# Altium footprint library SX1301DVK_e286v01a.PcbLib: 110 footprints (part 5 of 7)
Each footprint in its own frame and in the unit in brackets; x right, y up, seen from the top. Pads: shape width x height; smd on the part's side, far side on the other; paste and mask are expansions set on the pad; w line width, h text height; cw(c..) or ccw(c..) is an arc to the next point about the centre after c.
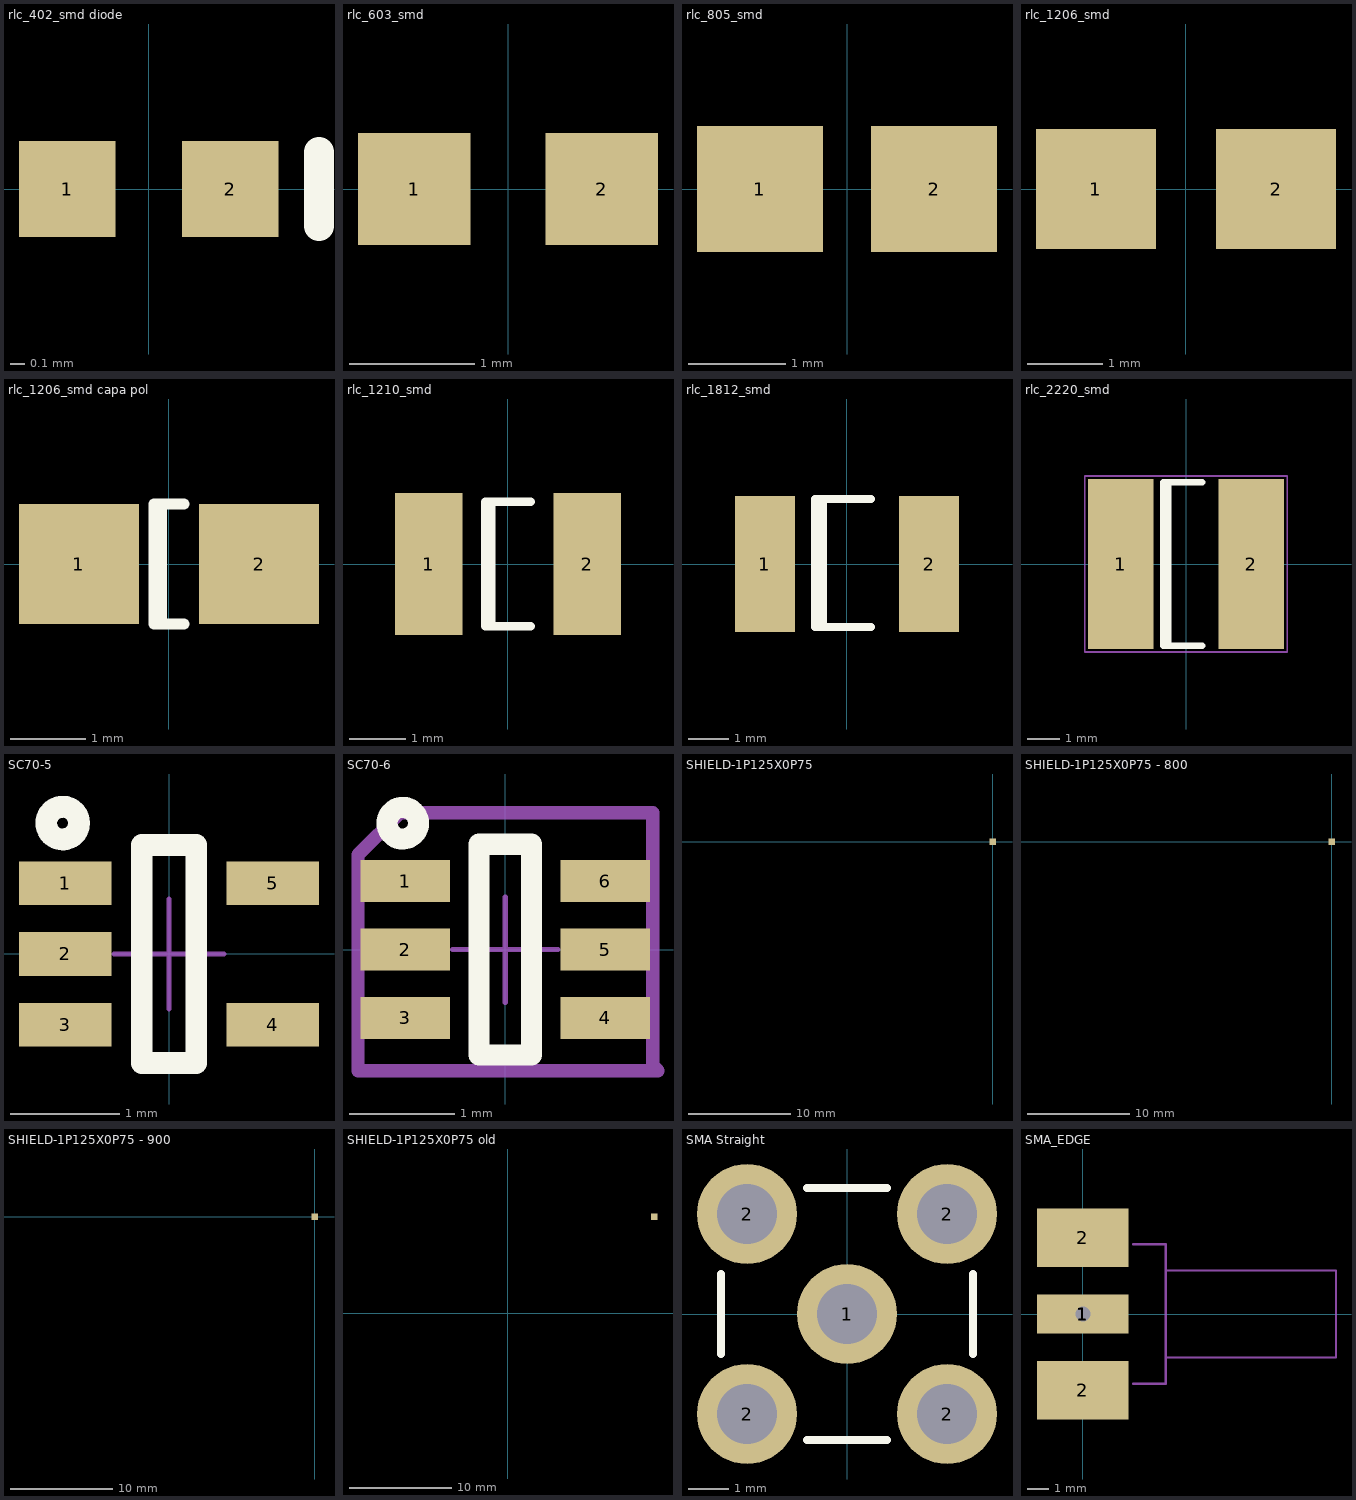
[diagram p4: the footprints below, top view; thin cyan lines are the x and y axes]

## rlc_402_smd diode [mm] "Chip SMD component 402; Body 1.0 x 0.5 mm (LxW typ)"
height 0.8
pads (2):
  rect 0.65x0.65 smd mask+0.05: 1(-0.55,0) 2(0.55,0)
Top Overlay:
  lines w0.2: 1.15,-0.25 1.15,0.25

## rlc_603_smd [mm] "Chip SMD component 603; Body 1.6 x 0.8mm (LxW typ)"
height 1
pads (2):
  rect 0.9x0.9 smd paste+0 mask+0.05: 1(-0.75,0) 2(0.75,0)

## rlc_805_smd [mm] "Chip SMD component 805; Body 2.0 x 1.25 mm (LxW typ)"
height 1.4
pads (2):
  rect 1.3x1.3 smd mask+0.05: 1(-0.9,0) 2(0.9,0)

## rlc_1206_smd [mm] "Chip SMD component 1206; Body 3.2 x 1.6 mm (LxW typ)"
height 2
pads (2):
  rect 1.6x1.6 smd mask+0.05: 1(-1.2,0) 2(1.2,0)

## rlc_1206_smd capa pol [mm] "Chip SMD component 1206; Body 3.2 x 1.6 mm (LxW typ)"
height 2
pads (2):
  rect 1.6x1.6 smd mask+0.05: 1(-1.2,0) 2(1.2,0)
Top Overlay:
  lines w0.15: -0.1,-0.8 -0.1,0.8 ; 0.2,-0.8 -0.2,-0.8 -0.2,0.8 0.2,0.8

## rlc_1210_smd [mm] "Chip SMD component 1210; Body 3.2 x 2.5 mm (LxW typ)"
height 2
pads (2):
  rect 1.2x2.5 smd mask+0.05: 1(-1.4,0) 2(1.4,0)
Top Overlay:
  lines w0.15: -0.3,-1.1 -0.3,1.1 ; 0.4,-1.1 -0.4,-1.1 -0.4,1.1 0.4,1.1

## rlc_1812_smd [mm] "Chip SMD component 1812; Body 4.5 x 3.2 mm (LxW typ)"
height 2.5
pads (2):
  rect 1.5x3.4 smd mask+0.05: 1(-2.05,0) 2(2.05,0)
Top Overlay:
  lines w0.2: -0.606,-1.579 -0.606,1.621 ; 0.604,-1.579 -0.796,-1.579 -0.796,1.621 0.604,1.621

## rlc_2220_smd [mm] "Chip SMD component ; Body 5.7 x 5.0 mm (LxW typ)"
height 5
pads (2):
  rect 2x5.2 smd mask+0.05: 1(-2,0) 2(2,0)
Top Overlay:
  lines w0.2: -0.55,-2.5 -0.55,2.5 ; 0.5,-2.5 -0.7,-2.5 -0.7,2.5 0.5,2.5
Mechanical 15:
  lines w0.05: -3.1,-2.7 3.1,-2.7 3.1,2.7 -3.1,2.7 -3.1,-2.7

## SC70-5 [mm] "SC70 5-Leads, Body 2.0x1.25mm, Pitch 0.65mm"
height 1.45
pads (5):
  rect 0.85x0.4 smd mask+0.05: 1(-0.95,0.65) 2(-0.95,0) 3(-0.95,-0.65) 4(0.95,-0.65) 5(0.95,0.65)
Top Overlay:
  circle w0.2: c-0.975,1.2 r0.15
  lines w0.2: -0.25,-1 0.25,-1 0.25,1 -0.25,1 -0.25,-1
Mechanical 15:
  lines w0.05: -0.5,0 0.5,0 ; 0,-0.5 0,0.5
3D body: height 1.45, standoff 0, extent -0.625,-1 0.625,1

## SC70-6 [mm] "SC70 6-Leads, Body 2.0x1.25mm, Pitch 0.65mm"
height 1.45
pads (6):
  rect 0.85x0.4 smd mask+0.05: 1(-0.95,0.65) 2(-0.95,0) 3(-0.95,-0.65) 4(0.95,-0.65) 5(0.95,0) 6(0.95,0.65)
Top Overlay:
  circle w0.2: c-0.975,1.2 r0.15
  lines w0.2: -0.25,-1 0.25,-1 0.25,1 -0.25,1 -0.25,-1
Mechanical 14:
  lines w0.127: -1.4,-1.15 1.45,-1.15 1.4,-1.1 1.4,1.3 -1,1.3 -1.4,0.9 -1.4,0.85 -1.4,-1.15
  text ".Designator" at -0.474,-0.141 h0.5
Mechanical 15:
  lines w0.05: -0.5,0 0.5,0 ; 0,-0.5 0,0.5
3D body: height 1.45, standoff 0, extent -0.625,-1 0.625,1

## SHIELD-1P125X0P75 [mm] "SHIELD-1P125X0P75 modif"
height 10
pads (1):
  rect 0.635x0.635 smd paste-1 mask+0.05: 1(0,0)
Top Solder:
  region: 0.393,-19.438 0.393,-12.053 -0.387,-12.053 -0.387,-19.438
  region: 0.393,-18.648 -28.958,-18.648 -28.958,-19.438 0.393,-19.438
  pour cut-out: -28.956,-19.431 -28.956,0.381 0.381,0.381 0.381,-8.255 -0.381,-8.255 -0.381,-0.381 -28.194,-0.381 -28.194,-18.669 -0.381,-18.669 -0.381,-12.065 0.381,-12.065 0.381,-19.431
  region: 0.393,0.397 -28.958,0.397 -28.958,-0.393 0.393,-0.393
  region: 0.393,-8.262 0.393,0.397 -0.387,0.397 -0.387,-8.262
  region: -28.178,-19.438 -28.178,0.397 -28.958,0.397 -28.958,-19.438

## SHIELD-1P125X0P75 - 800 [mm] "SHIELD-1P125X0P75 - 800"
height 10
pads (1):
  rect 0.635x0.635 smd paste-1 mask+0.05: 1(0,0)
Top Solder:
  region: -27.4,-18.66 -28.959,-18.66 -28.959,-19.44 -27.4,-19.44
  region: -28.18,-19.439 -28.18,-12.3 -28.96,-12.3 -28.96,-19.439
  region: -28.17,-5 -28.17,-0.003 -28.95,-0.003 -28.95,-5
  region: 0.393,-8.262 0.393,0.397 -0.387,0.397 -0.387,-8.262
  region: 0.393,0.397 -28.958,0.397 -28.958,-0.393 0.393,-0.393
  pour cut-out: -28.956,-19.431 -28.956,0.381 0.381,0.381 0.381,-8.255 -0.381,-8.255 -0.381,-0.381 -28.194,-0.381 -28.194,-18.669 -0.381,-18.669 -0.381,-12.065 0.381,-12.065 0.381,-19.431
  region: 0.393,-18.648 -22.8,-18.648 -22.8,-19.438 0.393,-19.438
  region: 0.393,-19.438 0.393,-12.053 -0.387,-12.053 -0.387,-19.438

## SHIELD-1P125X0P75 - 900 [mm] "SHIELD-1P125X0P75 - 900"
height 10
pads (1):
  rect 0.635x0.635 smd paste-1 mask+0.05: 1(0,0)
Top Solder:
  region: 0.393,-19.438 0.393,-12.053 -0.387,-12.053 -0.387,-19.438
  region: 0.393,-18.648 -28.958,-18.648 -28.958,-19.438 0.393,-19.438
  pour cut-out: -28.956,-19.431 -28.956,0.381 0.381,0.381 0.381,-8.255 -0.381,-8.255 -0.381,-0.381 -28.194,-0.381 -28.194,-18.669 -0.381,-18.669 -0.381,-12.065 0.381,-12.065 0.381,-19.431
  region: 0.393,0.397 -28.958,0.397 -28.958,-0.393 0.393,-0.393
  region: 0.393,-8.262 0.393,0.397 -0.387,0.397 -0.387,-8.262
  region: -28.178,-2.1 -28.178,0.397 -28.958,0.397 -28.958,-2.1
  region: -28.18,-19.439 -28.18,-17.5 -28.96,-17.5 -28.96,-19.439
  region: -28.17,-14.75 -28.17,-10.75 -28.95,-10.75 -28.95,-14.75

## SHIELD-1P125X0P75 old [mil] "SHIELD-1P125X0P75 - allegro version"
pads (1):
  rect 25x25 smd: 1(562.5,372.15)
Top Solder:
  pour cut-out: -577.5,-392.85 -577.5,387.15 577.5,387.15 577.5,47.15 547.5,47.15 547.5,357.15 -547.5,357.15 -547.5,-362.85 547.5,-362.85 547.5,-102.85 577.5,-102.85 577.5,-392.85
Mechanical 13:
  text "1" at 554.62,372.15 h19.69

## SMA Straight [mm] "SMA Connector; Straight"
height 10
pads (5):
  round 2.5 hole 1.5 paste+0 mask+0.1: 1(0,0) 2(-2.5,-2.5) 2(-2.5,2.5) 2(2.5,-2.5) 2(2.5,2.5)
Top Overlay:
  lines w0.2: -3.15,-1 -3.15,1 ; -1,-3.15 1,-3.15 ; -1,3.15 1,3.15 ; 3.15,-1 3.15,1
Mechanical 1:
  circle w0.025: c0,0 r0.2

## SMA_EDGE [mil] "SMA Edge connector - modified"
height 393.7
pads (4):
  rect 165x70 smd mask+1.97: 1(0,0)
  round 39.37 hole 27.56: 1(0,0)
  rect 165x105 smd mask+1.97: 2(0,-137.5) 2(0,137.5)
Bottom Solder:
  region: -84.65,-83.07 -84.65,-192.13 84.65,-192.13 84.65,-83.07
  region: -84.65,192.13 -84.65,83.07 84.65,83.07 84.65,192.13
Mechanical 15:
  lines w3.94: 90.37,-125.98 149.43,-125.98 149.43,-78.74 ; 90.37,125.98 149.43,125.98 149.43,78.74 ; 149.43,-78.74 456.52,-78.74 456.52,78.74 149.43,78.74 ; 149.43,-78.74 149.43,78.74